# EAGLE library part 75869-131LF (library radio-tracker)
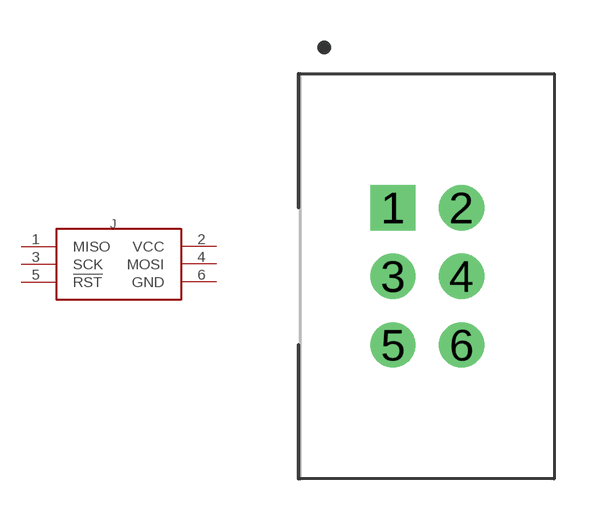
[diagram p7: symbol with the pads of 75869-131LF; footprint 75869-131LF]

Designator prefix J

## 75869-131LF  [75869-131LF]
1  MISO  in
2  VCC  pwr
3  SCK  out
4  MOSI  out
5  !RST  out
6  GND  pas

## Footprint 75869-131LF (pad centres in mm)
Three-row, 6-pin Pin Header (Male) Straight, 2.54 mm (0.10 in) row pitch, 2.54 mm (0.10 in) col pitch, 6.35 mm mating length, 9.20 X 14.83 X 9.57 mm body Three-row (3X2), 6-pin Pin Header (Male) Straight package with 2.54 mm (0.10 in) row pitch, 2.54 mm (0.10 in) col pitch, 0.62 mm lead width, 3.00 mm tail length and 6.35 mm mating length with overall size 9.20 X 14.83 X 9.57 mm, pin pattern - zigzag from bottom left
drill 1.077 pad 1.677 square: 1 -1.27,2.54
drill 1.077 pad 1.677: 2 1.27,2.54; 3 -1.27,0; 4 1.27,0; 5 -1.27,-2.54; 6 1.27,-2.54